# EAGLE library part VNH7040 (library 2020-03-18-Lib)
VNH7040
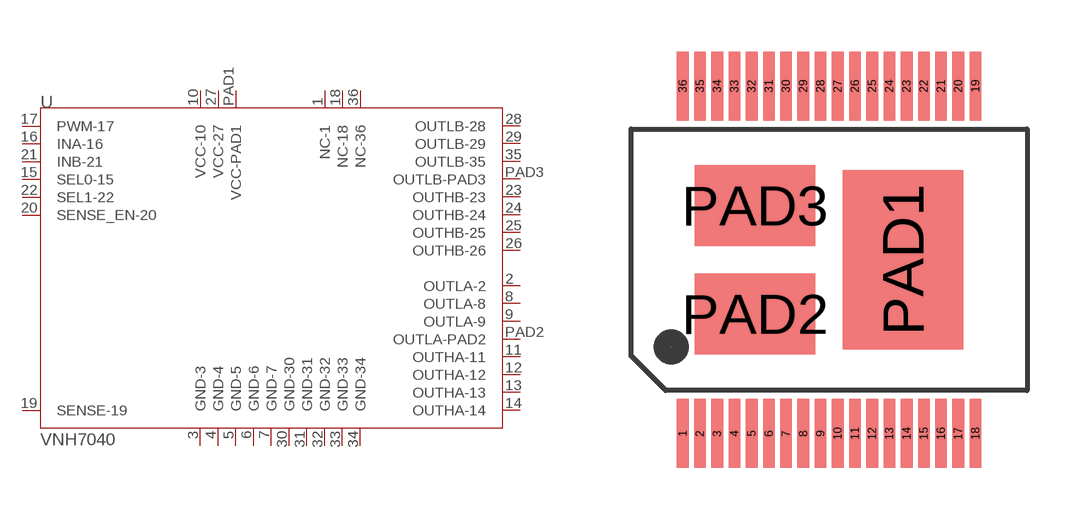
[diagram p2: symbol with the pads of SSO-36-TP; footprint SSO-36-TP]

Designator prefix -

## VNH7040  [SSO-36-TP]
1  NC-1  nc
2  OUTLA-2  pwr
3  GND-3  pwr
4  GND-4  pwr
5  GND-5  pwr
6  GND-6  pwr
7  GND-7  pwr
8  OUTLA-8  pwr
9  OUTLA-9  pwr
10  VCC-10  pwr
11  OUTHA-11  pwr
12  OUTHA-12  pwr
13  OUTHA-13  pwr
14  OUTHA-14  pwr
15  SEL0-15  in
16  INA-16  in
17  PWM-17  in
18  NC-18  nc
19  SENSE-19  out
20  SENSE_EN-20  in
21  INB-21  in
22  SEL1-22  in
23  OUTHB-23  pwr
24  OUTHB-24  pwr
25  OUTHB-25  pwr
26  OUTHB-26  pwr
27  VCC-27  pwr
28  OUTLB-28  pwr
29  OUTLB-29  pwr
30  GND-30  pwr
31  GND-31  pwr
32  GND-32  pwr
33  GND-33  pwr
34  GND-34  pwr
35  OUTLB-35  pwr
36  NC-36  nc
PAD1  VCC-PAD1  pwr
PAD2  OUTLA-PAD2  pwr
PAD3  OUTLB-PAD3  pwr

## Footprint SSO-36-TP (pad centres in mm)
PIN: 0.34x2.00[mm] BOX: 10.50x12.10[mm] BODY: 10.50x7.60[mm] PAD separation: 0.16[mm] PAD1: 5.20x3.50 [mm] PAD2/3: 2.35x3.50 [mm]
smd 0.34 x 2: 1 -4.25,-5.05; 2 -3.75,-5.05; 3 -3.25,-5.05; 4 -2.75,-5.05; 5 -2.25,-5.05; 6 -1.75,-5.05; 7 -1.25,-5.05; 8 -0.75,-5.05; 9 -0.25,-5.05; 10 0.25,-5.05; 11 0.75,-5.05; 12 1.25,-5.05; 13 1.75,-5.05; 14 2.25,-5.05; 15 2.75,-5.05; 16 3.25,-5.05; 17 3.75,-5.05; 18 4.25,-5.05; 19 4.25,5.05; 20 3.75,5.05; 21 3.25,5.05; 22 2.75,5.05; 23 2.25,5.05; 24 1.75,5.05; 25 1.25,5.05; 26 0.75,5.05; 27 0.25,5.05; 28 -0.25,5.05; 29 -0.75,5.05; 30 -1.25,5.05; 31 -1.75,5.05; 32 -2.25,5.05; 33 -2.75,5.05; 34 -3.25,5.05; 35 -3.75,5.05; 36 -4.25,5.05
smd 3.5 x 5.2: PAD1 2.15,0
smd 3.5 x 2.35: PAD2 -2.15,-1.575; PAD3 -2.15,1.575